# Altium schematic symbol library C1005X7R1H104K050BB.SchLib: 1 symbol
Pins are listed as number, name and electrical type; pins without a type are passive.

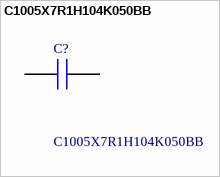
[diagram p0: symbol C1005X7R1H104K050BB]

## C1005X7R1H104K050BB
designator C?
MULTILAYER CERAMIC CHIP CAPACITORS, 1005, Commercial grade, general (Up to 75V); Manufacturer_Name: TDK; Geometry.Height: 0.55mm; Mouser Part Number: 810-C1005X7R1H104K; Mouser Price/Stock: https://www.mouser.co.uk/ProductDetail/TDK/C1005X7R1H104K050BB?qs=NRhsANhppD%252BtzMfGq8walg%3D%3D; Manufacturer_Part_Number: C1005X7R1H104K050BB; Datasheet Link: https://product.tdk.com/info/en/catalog/datasheets/mlcc_commercial_midvoltage_en.pdf
footprint CAPC1005X55N
pins: 1, 2